# Altium footprint library Gelnar.PcbLib: 295 footprints (part 5 of 19)
Each footprint in its own frame and in the unit in brackets; x right, y up, seen from the top. Pads: shape width x height; smd on the part's side, far side on the other; paste and mask are expansions set on the pad; w line width, h text height; cw(c..) or ccw(c..) is an arc to the next point about the centre after c.
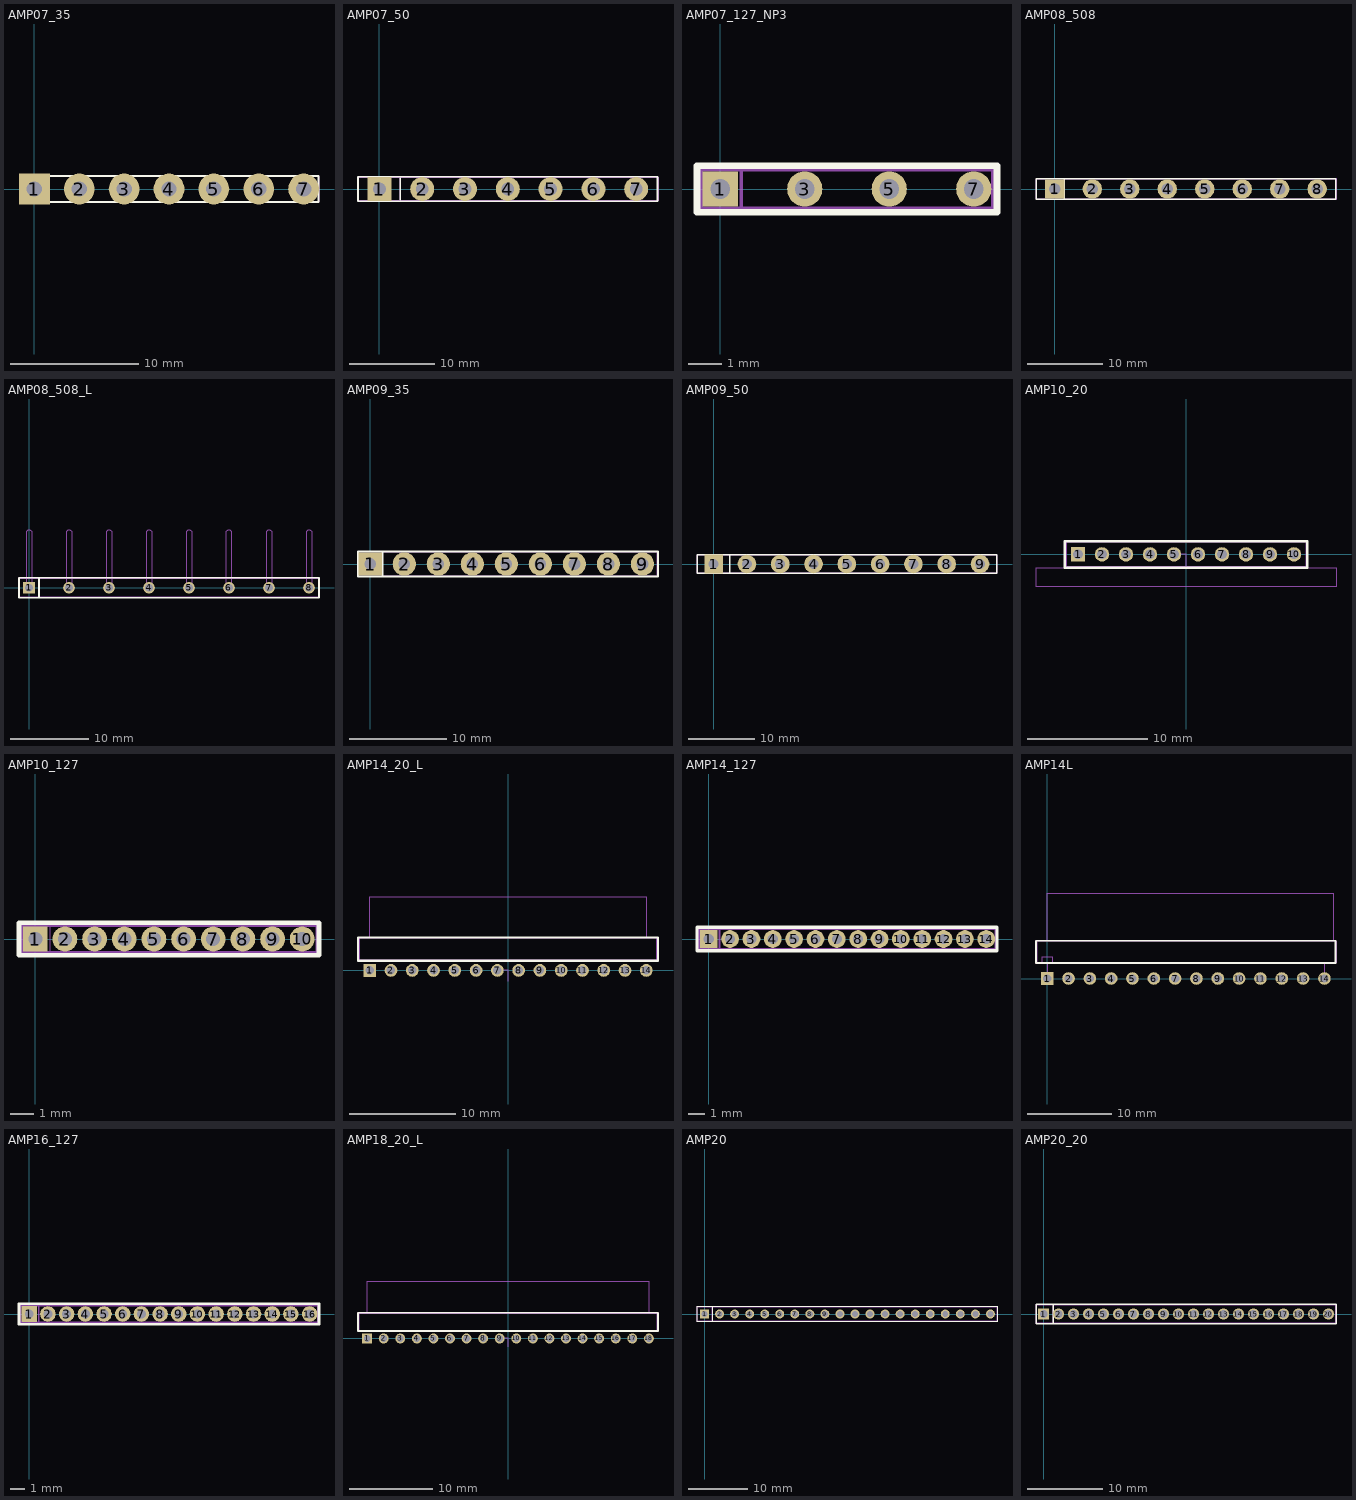
[diagram p4: the footprints below, top view; thin cyan lines are the x and y axes]

## AMP07_35 [mm]
height 9.5
pads (7):
  rect 2.4x2.4 hole 1.2 mask+0.05: 1(0,0)
  round 2.4 hole 1.2 mask+0.05: 2(3.5,0) 3(7,0) 4(10.5,0) 5(14,0) 6(17.5,0) 7(21,0)
Top Overlay:
  lines w0.15: -1.01,-1.01 22.15,-1.01 22.15,1.01 -1.01,1.01 -1.01,-1.01
Mechanical 15:
  lines w0.1: 1,-1 1,1 ; -1,-1 22.2,-1 22.2,1 -1,1 -1,-1

## AMP07_50 [mm]
height 9.5
pads (7):
  rect 2.8x2.8 / inner round 2.8 / far side rect 2.8x2.8 hole 1.5 mask+0.05: 1(0,0)
  round 2.8 hole 1.5 mask+0.05: 2(5,0) 3(10,0) 4(15,0) 5(20,0) 6(25,0) 7(30,0)
Top Overlay:
  lines w0.2: 2.45,-1.27 2.45,1.27 ; -2.5,-1.42 32.5,-1.42 32.5,1.42 -2.5,1.42 -2.5,-1.42
Mechanical 15:
  lines w0.1: 2.45,-1.27 2.45,1.27 ; -2.5,-1.4 32.55,-1.4 32.55,1.4 -2.5,1.4 -2.5,-1.4
Mechanical 20:
  lines w0.1: -2.4,-1.41 32.45,-1.41 32.45,1.41 -2.4,1.41 -2.4,-1.41

## AMP07_127_NP3 [mm]
height 9.5
pads (4):
  rect 1.06x1.06 hole 0.6 mask+0.05: 1(0,0)
  round 1.06 hole 0.6 mask+0.05: 3(2.54,0) 5(5.08,0) 7(7.62,0)
Top Overlay:
  lines w0.2: -0.699,-0.699 8.319,-0.699 8.319,0.699 -0.699,0.699 -0.699,-0.699
Mechanical 15:
  lines w0.1: 0.635,-0.635 0.635,0.635 ; -0.635,-0.635 8.255,-0.635 8.255,0.635 -0.635,0.635 -0.635,-0.635
Multi-Layer:
  text "Value" at 5.813,-0.298 h0.75
Mechanical 20:
  lines w0.1: -0.572,-0.572 8.191,-0.572 8.191,0.572 -0.572,0.572 -0.572,-0.572

## AMP08_508 [mm]
height 9.5
pads (8):
  rect 2.6x2.6 hole 1.5 mask+0.1: 1(0,0)
  round 2.6 hole 1.5 mask+0.1: 2(5,0) 3(10,0) 4(15,0) 5(20,0) 6(25,0) 7(30,0) 8(35,0)
Top Overlay:
  lines w0.2: 1.27,-1.27 1.27,1.27 ; -2.5,-1.4 37.5,-1.4 37.5,1.4 -2.5,1.4 -2.5,-1.4
Mechanical 15:
  lines w0.1: 1.27,-1.27 1.27,1.27 ; -2.5,-1.4 37.5,-1.4 37.5,1.4 -2.5,1.4 -2.5,-1.4
Mechanical 20:
  lines w0.1: -2.506,-1.406 37.507,-1.406 37.507,1.406 -2.506,1.406 -2.506,-1.406

## AMP08_508_L [mm]
height 9.5
pads (8):
  rect 1.5x1.5 hole 1 mask+0.05: 1(0,0)
  round 1.5 hole 1 mask+0.05: 2(5.08,0) 3(10.16,0) 4(15.24,0) 5(20.32,0) 6(25.4,0) 7(30.48,0) 8(35.56,0)
Top Overlay:
  lines w0.2: 1.27,-1.27 1.27,1.27 ; -1.27,-1.27 36.83,-1.27 36.83,1.27 -1.27,1.27 -1.27,-1.27
Mechanical 15:
  lines w0.1: 1.27,-1.27 1.27,1.27 ; -1.27,-1.27 36.83,-1.27 36.83,1.27 -1.27,1.27 -1.27,-1.27 ; -0.381,0 0.381,0 0.381,7.103 0.181,7.302 -0.181,7.302 -0.381,7.103 -0.381,0 ; 4.699,0 5.461,0 5.461,7.103 5.261,7.302 4.899,7.302 4.699,7.103 4.699,0 ; 9.779,0 10.541,0 10.541,7.103 10.341,7.302 9.979,7.302 9.779,7.103 9.779,0 ; 14.859,0 15.621,0 15.621,7.103 15.421,7.302 15.059,7.302 14.859,7.103 14.859,0 ; 19.939,0 20.701,0 20.701,7.103 20.501,7.302 20.139,7.302 19.939,7.103 19.939,0 ; 25.019,0 25.781,0 25.781,7.103 25.581,7.302 25.219,7.302 25.019,7.103 25.019,0 ; 30.099,0 30.861,0 30.861,7.103 30.661,7.302 30.299,7.302 30.099,7.103 30.099,0 ; 35.179,0 35.941,0 35.941,7.103 35.741,7.302 35.379,7.302 35.179,7.103 35.179,0
Multi-Layer:
  text "Value" at 10.195,-0.171 h0.75
Mechanical 20:
  lines w0.1: -1.206,-1.206 36.83,-1.206 36.83,1.206 -1.206,1.206 -1.206,-1.206

## AMP09_35 [mm]
height 9.5
pads (9):
  rect 2.4x2.4 / inner round 2.4 / far side rect 2.4x2.4 hole 1.2 mask+0.05: 1(0,0)
  round 2.4 hole 1.2 mask+0.05: 2(3.5,0) 3(7,0) 4(10.5,0) 5(14,0) 6(17.5,0) 7(21,0) 8(24.5,0) 9(28,0)
Top Overlay:
  lines w0.2: 1.27,-1.27 1.27,1.27 ; -1.27,-1.27 29.6,-1.27 29.6,1.27 -1.27,1.27 -1.27,-1.27
Mechanical 15:
  lines w0.1: 1.27,-1.27 1.27,1.27 ; -1.27,-1.27 29.5,-1.27 29.5,1.27 -1.27,1.27 -1.27,-1.27
Mechanical 20:
  lines w0.1: -1.27,-1.27 29.45,-1.27 29.45,1.27 -1.27,1.27 -1.27,-1.27

## AMP09_50 [mm]
height 9.5
pads (9):
  rect 2.8x2.8 / inner round 2.8 / far side rect 2.8x2.8 hole 1.5 mask+0.05: 1(0,0)
  round 2.8 hole 1.5 mask+0.05: 2(5,0) 3(10,0) 4(15,0) 5(20,0) 6(25,0) 7(30,0) 8(35,0) 9(40,0)
Top Overlay:
  lines w0.2: 2.45,-1.27 2.45,1.27 ; -2.5,-1.42 42.5,-1.42 42.5,1.42 -2.5,1.42 -2.5,-1.42
Mechanical 15:
  lines w0.1: 2.45,-1.27 2.45,1.27 ; -2.5,-1.4 42.55,-1.4 42.55,1.4 -2.5,1.4 -2.5,-1.4
Multi-Layer:
  text "Value" at 14.576,-0.298 h0.75
Mechanical 20:
  lines w0.1: -2.4,-1.41 42.45,-1.41 42.45,1.41 -2.4,1.41 -2.4,-1.41

## AMP10_20 [mm]
pads (10):
  rect 1.2x1.2 hole 0.8 mask+0.05: 1(-9,0)
  round 1.2 hole 0.8 mask+0.05: 2(-7,0) 3(-5,0) 4(-3,0) 5(-1,0) 6(1,0) 7(3,0) 8(5,0) 9(7,0) 10(9,0)
Top Overlay:
  lines w0.2: -10.1,-1.1 10.1,-1.1 10.1,1.1 -10.1,1.1 -10.1,-1.1
Mechanical 15:
  lines w0.1: -12.5,-2.7 12.5,-2.7 12.5,-1.1 -12.5,-1.1 -12.5,-2.7 ; -10,-1 10,-1 10,1 -10,1 -10,-1
Multi-Layer:
  text "Value" at 4.965,2.075 h0.75
Mechanical 19:
  lines w0.1: -1,0 0,0 0,-1
Mechanical 20:
  lines w0.1: -10.1,-1.1 10.1,-1.1 10.1,1.1 -10.1,1.1 -10.1,-1.1

## AMP10_127 [mm]
height 9.5
pads (10):
  rect 1.06x1.06 hole 0.6 mask+0.05: 1(0,0)
  round 1.06 hole 0.6 mask+0.05: 2(1.27,0) 3(2.54,0) 4(3.81,0) 5(5.08,0) 6(6.35,0) 7(7.62,0) 8(8.89,0) 9(10.16,0) 10(11.43,0)
Top Overlay:
  lines w0.2: -0.699,-0.699 12.15,-0.699 12.15,0.699 -0.699,0.699 -0.699,-0.699
Mechanical 15:
  lines w0.01: 0.635,-0.635 0.635,0.635 ; -0.635,-0.635 12.1,-0.635 12.1,0.635 -0.635,0.635 -0.635,-0.635
Mechanical 20:
  lines w0.1: -0.572,-0.572 12.05,-0.572 12.05,0.572 -0.572,0.572 -0.572,-0.572

## AMP14_20_L [mm]
pads (14):
  rect 1.2x1.2 hole 0.8 mask+0.05: 1(-13,0)
  round 1.2 hole 0.8 mask+0.05: 2(-11,0) 3(-9,0) 4(-7,0) 5(-5,0) 6(-3,0) 7(-1,0) 8(1,0) 9(3,0) 10(5,0) 11(7,0) 12(9,0) 13(11,0) 14(13,0)
Top Overlay:
  lines w0.2: -14.1,0.9 14.1,0.9 14.1,3.1 -14.1,3.1 -14.1,0.9
Mechanical 15:
  lines w0.1: -13,3 -13,6.9 13,6.9 13,3 ; -14,1 14,1 14,3 -14,3 -14,1
Mechanical 19:
  lines w0.1: -1,0 0,0 0,-1
Mechanical 20:
  lines w0.1: -14.1,0.9 14.1,0.9 14.1,3.1 -14.1,3.1 -14.1,0.9

## AMP14_127 [mm]
height 9.5
pads (14):
  rect 1.06x1.06 hole 0.6 mask+0.05: 1(0,0)
  round 1.06 hole 0.6 mask+0.05: 2(1.27,0) 3(2.54,0) 4(3.81,0) 5(5.08,0) 6(6.35,0) 7(7.62,0) 8(8.89,0) 9(10.16,0) 10(11.43,0) 11(12.7,0) 12(13.97,0) 13(15.24,0) 14(16.51,0)
Top Overlay:
  lines w0.2: -0.699,-0.699 17.15,-0.699 17.15,0.699 -0.699,0.699 -0.699,-0.699
Mechanical 15:
  lines w0.1: 0.635,-0.635 0.635,0.635 ; -0.635,-0.635 17.1,-0.635 17.1,0.635 -0.635,0.635 -0.635,-0.635
Multi-Layer:
  text "Value" at 5.813,-0.298 h0.75
Mechanical 20:
  lines w0.1: -0.572,-0.572 17.05,-0.572 17.05,0.572 -0.572,0.572 -0.572,-0.572

## AMP14L [mm]
height 9.5
pads (14):
  rect 1.5x1.5 hole 1 mask+0.1: 1(0,0)
  round 1.5 hole 1 mask+0.1: 2(2.54,0) 3(5.08,0) 4(7.62,0) 5(10.16,0) 6(12.7,0) 7(15.24,0) 8(17.78,0) 9(20.32,0) 10(22.86,0) 11(25.4,0) 12(27.94,0) 13(30.48,0) 14(33.02,0)
Top Overlay:
  lines w0.2: -1.333,1.841 34.35,1.841 34.35,4.508 -1.333,4.508 -1.333,1.841
Mechanical 15:
  lines w0.1: 0,0 0,1.905 ; 33.05,0 33.05,1.905 ; -1.27,1.905 34.4,1.905 34.4,4.445 -1.27,4.445 -1.27,1.905 ; -0.635,1.905 0.635,1.905 0.635,2.54 -0.635,2.54 -0.635,1.905 ; 0,4.445 34.06,4.445 34.06,10.16 0,10.16 0,4.445
Multi-Layer:
  text "Value" at 16.799,2.877 h0.75
Mechanical 20:
  lines w0.1: -1.333,1.841 34.4,1.841 34.4,4.508 -1.333,4.508 -1.333,1.841

## AMP16_127 [mm]
height 9.5
pads (16):
  rect 1.06x1.06 hole 0.6 mask+0.05: 1(0,0)
  round 1.06 hole 0.6 mask+0.05: 2(1.27,0) 3(2.54,0) 4(3.81,0) 5(5.08,0) 6(6.35,0) 7(7.62,0) 8(8.89,0) 9(10.16,0) 10(11.43,0) 11(12.7,0) 12(13.97,0) 13(15.24,0) 14(16.51,0) 15(17.78,0) 16(19.05,0)
Top Overlay:
  lines w0.2: -0.699,-0.699 19.69,-0.699 19.69,0.699 -0.699,0.699 -0.699,-0.699
Mechanical 15:
  lines w0.1: 0.635,-0.635 0.635,0.635 ; -0.635,-0.635 19.64,-0.635 19.64,0.635 -0.635,0.635 -0.635,-0.635
Mechanical 20:
  lines w0.1: -0.572,-0.572 19.59,-0.572 19.59,0.572 -0.572,0.572 -0.572,-0.572

## AMP18_20_L [mm]
pads (18):
  rect 1.2x1.2 hole 0.8 mask+0.05: 1(-17,0)
  round 1.2 hole 0.8 mask+0.05: 2(-15,0) 3(-13,0) 4(-11,0) 5(-9,0) 6(-7,0) 7(-5,0) 8(-3,0) 9(-1,0) 10(1,0) 11(3,0) 12(5,0) 13(7,0) 14(9,0) 15(11,0) 16(13,0) 17(15,0) 18(17,0)
Top Overlay:
  lines w0.2: -18.1,0.9 18.1,0.9 18.1,3.1 -18.1,3.1 -18.1,0.9
Mechanical 15:
  lines w0.1: -17,3 -17,6.9 17,6.9 17,3 ; -18,1 18,1 18,3 -18,3 -18,1
Multi-Layer:
  text "Value" at 1.865,1.675 h0.75
Mechanical 19:
  lines w0.1: -1,0 0,0 0,-1
Mechanical 20:
  lines w0.1: -18.1,0.9 18.1,0.9 18.1,3.1 -18.1,3.1 -18.1,0.9

## AMP20 [mm]
height 9.5
pads (20):
  rect 1.5x1.5 hole 1 mask+0.1: 1(0,0)
  round 1.5 hole 1 mask+0.1: 2(2.54,0) 3(5.08,0) 4(7.62,0) 5(10.16,0) 6(12.7,0) 7(15.24,0) 8(17.78,0) 9(20.32,0) 10(22.86,0) 11(25.4,0) 12(27.94,0) 13(30.48,0) 14(33.02,0) 15(35.56,0) 16(38.1,0) 17(40.64,0) 18(43.18,0) 19(45.72,0) 20(48.26,0)
Top Overlay:
  lines w0.2: 1.27,-1.27 1.27,1.27 ; -1.27,-1.27 49.37,-1.27 49.37,1.27 -1.27,1.27 -1.27,-1.27
Mechanical 15:
  lines w0.1: 1.27,-1.27 1.27,1.27 ; -1.27,-1.27 49.37,-1.27 49.37,1.27 -1.27,1.27 -1.27,-1.27
Multi-Layer:
  text "Value" at 17.942,-0.298 h0.75
Mechanical 20:
  lines w0.1: -1.206,-1.206 49.307,-1.206 49.307,1.206 -1.206,1.206 -1.206,-1.206

## AMP20_20 [mm]
height 9.5
pads (20):
  rect 1.5x1.5 hole 1 mask+0.1: 1(0,0)
  round 1.5 hole 1 mask+0.1: 2(2,0) 3(4,0) 4(6,0) 5(8,0) 6(10,0) 7(12,0) 8(14,0) 9(16,0) 10(18,0) 11(20,0) 12(22,0) 13(24,0) 14(26,0) 15(28,0) 16(30,0) 17(32,0) 18(34,0) 19(36,0) 20(38,0)
Top Overlay:
  lines w0.2: 1.27,-1.27 1.27,1.27 ; -0.95,-1.27 39,-1.27 39,1.27 -0.95,1.27 -0.95,-1.27
Mechanical 15:
  lines w0.1: 1.27,-1.27 1.27,1.27 ; -0.95,-1.27 38.95,-1.27 38.95,1.27 -0.95,1.27 -0.95,-1.27
Multi-Layer:
  text "Value" at 15.942,-0.298 h0.75
Mechanical 20:
  lines w0.1: -1,-1.206 38.907,-1.206 38.907,1.206 -1,1.206 -1,-1.206